# EAGLE library part X_PUSH_BUTTON (library solderlessPCB v164)
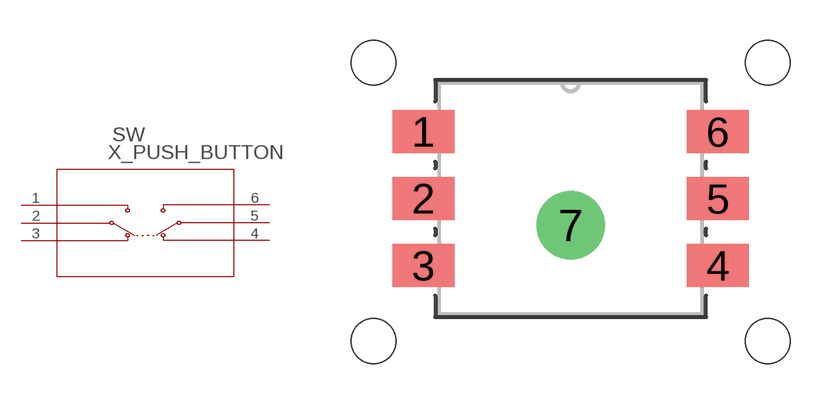
[diagram p4: symbol with the pads of PUSH_BUTTON; footprint PUSH_BUTTON]

Designator prefix SW

## X_PUSH_BUTTONESB335_PAN (COPYRIGHT: Copyright (C) 2023 Ultra Librarian. All rights reserved.; DIGI-KEY_PART_NUMBER_1: P15877STR-ND; DIGI-KEY_PART_NUMBER_2: P15877SCT-ND; DIGI-KEY_PART_NUMBER_3: P15877SDKR-ND; MANUFACTURER_PART_NUMBER: ESB-33535A; MFR_NAME: Panasonic)  [PUSH_BUTTON]
1  1  pas
2  2  pas
3  3  pas
4  4  pas
5  5  pas
6  6  pas

## Footprint PUSH_BUTTON (pad centres in mm)
smd 2.311 x 1.6: 1 -5.5,2.5; 2 -5.5,0; 3 -5.5,-2.5; 4 5.5,-2.5; 5 5.5,0; 6 5.5,2.5
drill 1.702 pad 2.21: 7 0,-1
hole 1.68 at -7.366,5.08
hole 1.68 at -7.366,-5.334
hole 1.68 at 7.366,-5.334
hole 1.68 at 7.366,5.08